# EAGLE library part SNES_MULTIAV_RGB_ONLY (library snes_div)
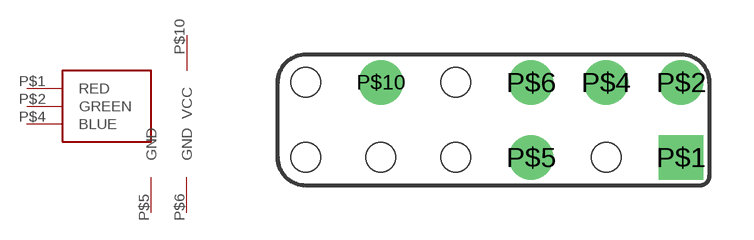
[diagram p8: symbol with the pads of SNES_MULTIAV_RGB_ONLY; footprint SNES_MULTIAV_RGB_ONLY]

Designator prefix -; gates G$1=PWR_MULTIAV_GND G$2=PWR G$3=SNES_MULTIAV_RGB_ONLY

## SNES_MULTIAV_RGB_ONLY  [SNES_MULTIAV_RGB_ONLY]
P$1  G$3:RED
P$2  G$3:GREEN
P$4  G$3:BLUE
P$5  G$1:GND
P$6  G$2:GND
P$10  G$2:VCC

## Footprint SNES_MULTIAV_RGB_ONLY (pad centres in mm)
drill 1 square: P$1 6.35,-1.27
drill 1: P$2 6.35,1.27; P$4 3.81,1.27; P$5 1.27,-1.27; P$6 1.27,1.27; P$10 -3.81,1.27
hole 1 at 3.81,-1.27
hole 1 at -1.27,1.27
hole 1 at -1.27,-1.27
hole 1 at -3.81,-1.27
hole 1 at -6.35,-1.27
hole 1 at -6.35,1.27